# Altium footprint library PcbLib1.PcbLib: 226 footprints (part 4 of 15)
Each footprint in its own frame and in the unit in brackets; x right, y up, seen from the top. Pads: shape width x height; smd on the part's side, far side on the other; paste and mask are expansions set on the pad; w line width, h text height; cw(c..) or ccw(c..) is an arc to the next point about the centre after c.
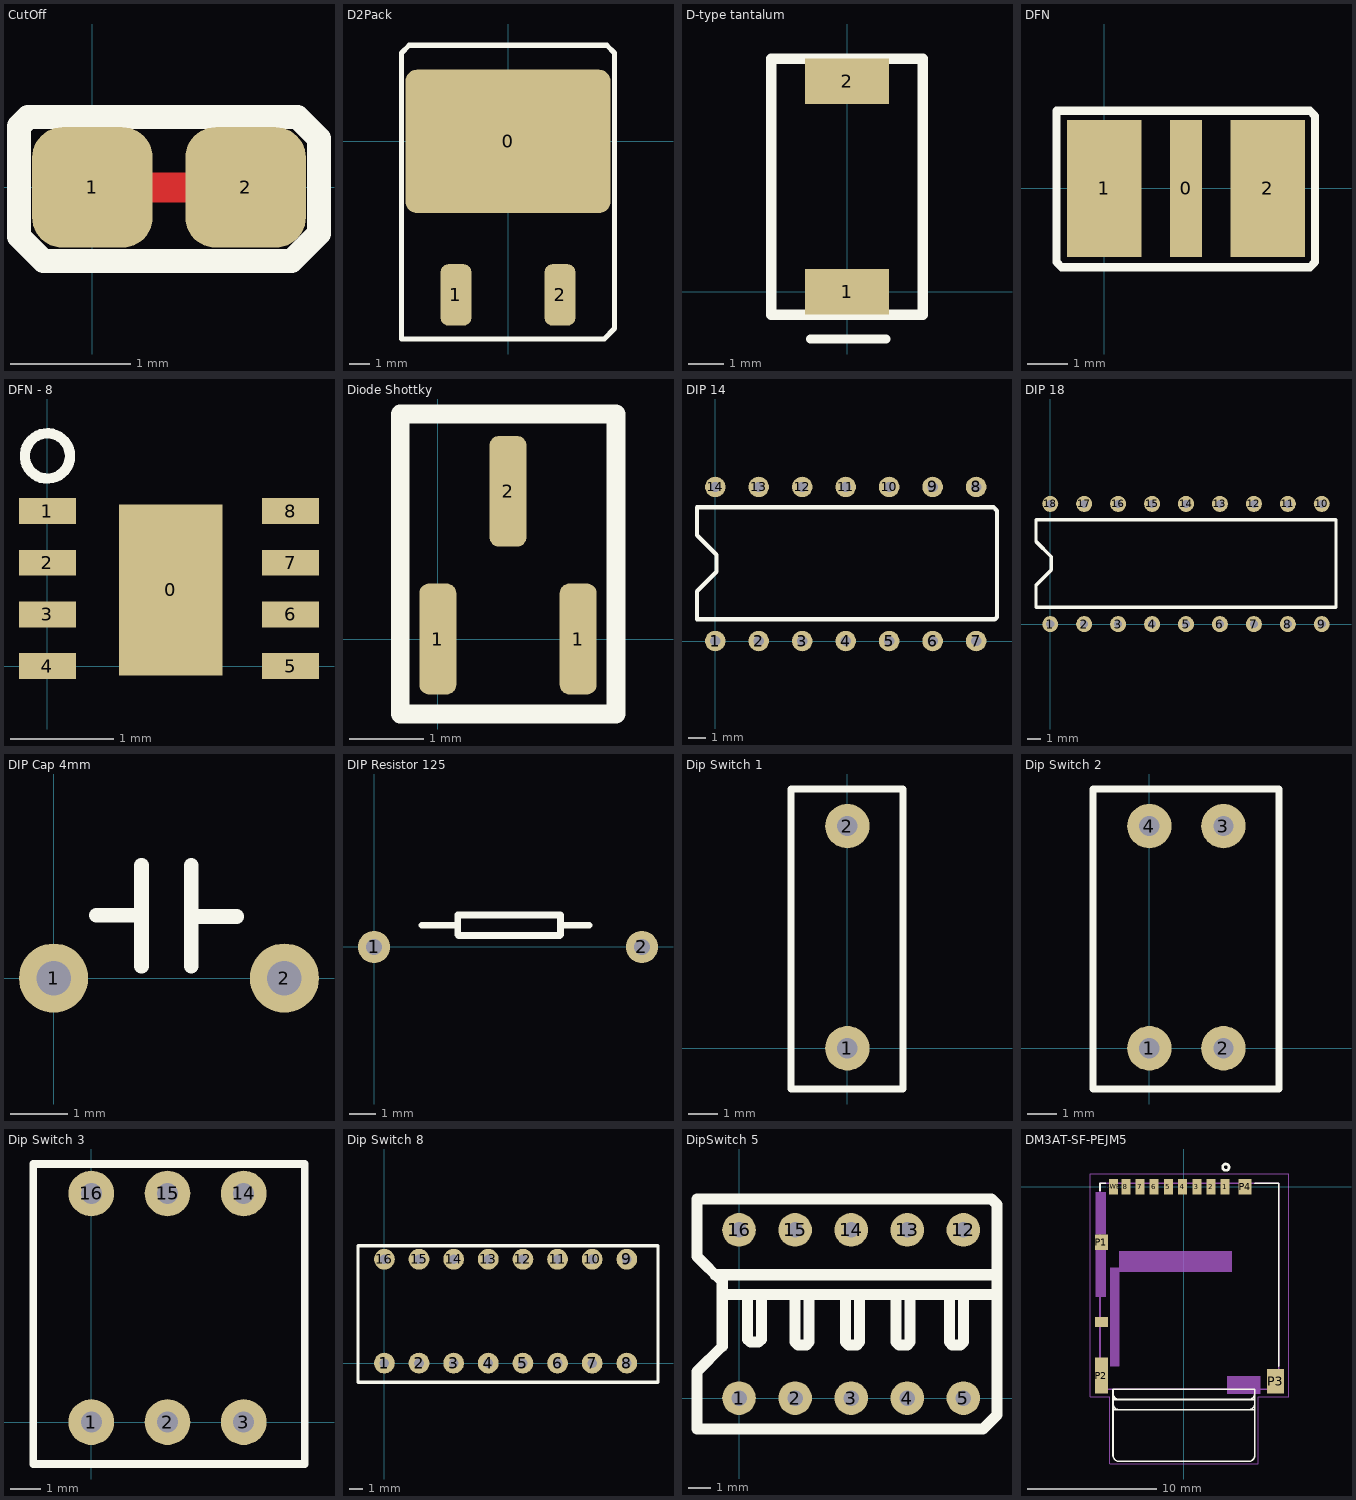
[diagram p3: the footprints below, top view; thin cyan lines are the x and y axes]

## CutOff [mm]
pads (2):
  rrect50% 1x1 smd paste+0 mask+0: 1(0,0) 2(1.27,0)
Top Layer:
  lines w0.25: 0,0 1.27,0
Top Overlay:
  lines w0.2: -0.61,-0.406 -0.61,0.508 -0.533,0.584 1.702,0.584 1.88,0.406 1.88,-0.381 1.651,-0.61 -0.406,-0.61 -0.61,-0.406

## D2Pack [mm]
pads (3):
  rrect15% 10x7 smd: 0(0,0)
  rrect50% 1.5x3 smd: 1(-2.54,-7.5) 2(2.54,-7.5)
Top Overlay:
  lines w0.254: -5.207,-9.652 4.699,-9.652 5.207,-9.144 5.207,4.318 4.826,4.699 -4.826,4.699 -5.207,4.318 -5.207,-9.652

## D-type tantalum [mm]
height 3
pads (2):
  rect 2.4x1.3 smd: 1(0,0) 2(0,5.994)
Top Overlay:
  lines w0.254: -1.041,-1.346 1.118,-1.346
  lines w0.3: -2.15,-0.657 -2.15,6.636 2.15,6.636 2.15,-0.657 2.146,-0.66 -2.146,-0.66 -2.15,-0.657

## DFN [mm]
height 1
pads (3):
  rect 0.8x3.4 smd: 0(2.025,0)
  rect 1.85x3.4 smd: 1(0,0) 2(4.05,0)
Top Overlay:
  lines w0.2: -1.194,-1.829 -1.067,-1.956 5.105,-1.956 5.232,-1.829 5.232,1.803 5.105,1.93 -1.194,1.93 -1.194,-1.829

## DFN - 8 [mm]
height 1
pads (9):
  rect 1x1.65 smd mask+0.05: 0(1.194,0.737)
  rect 0.55x0.25 smd mask+0.05: 1(0,1.499) 2(0,1) 3(0,0.5) 4(0,0) 5(2.35,0) 6(2.35,0.5) 7(2.35,1) 8(2.35,1.499)
Top Overlay:
  circle w0.1: c0,2.032 r0.218

## Diode Shottky [mm]
pads (3):
  rrect50% 0.5x1.5 smd: 1(0,0) 1(1.9,0) 2(0.95,2)
Top Overlay:
  lines w0.254: -0.508,-1.016 2.413,-1.016 2.413,3.048 -0.508,3.048 -0.508,-1.016

## DIP 14 [mm]
pads (14):
  round 1.2 hole 0.6: 1(0,0) 2(2.54,0) 3(5.08,0) 4(7.62,0) 5(10.16,0) 6(12.7,0) 7(15.24,0) 8(15.24,9) 9(12.7,9) 10(10.16,9) 11(7.62,9) 12(5.08,9) 13(2.54,9) 14(0,9)
Top Overlay:
  lines w0.254: -1.067,1.27 16.332,1.27 16.459,1.397 16.459,7.62 16.434,7.645 16.256,7.823 -1.067,7.823 -1.067,6.185 0.076,5.042 0.076,4.051 -1.067,2.908 -1.067,1.27

## DIP 18 [mm]
height 2
pads (18):
  round 1.2 hole 0.6: 1(0,0) 2(2.54,0) 3(5.08,0) 4(7.62,0) 5(10.16,0) 6(12.7,0) 7(15.24,0) 8(17.78,0) 9(20.32,0) 10(20.32,9) 11(17.78,9) 12(15.24,9) 13(12.7,9) 14(10.16,9) 15(7.62,9) 16(5.08,9) 17(2.54,9) 18(0,9)
Top Overlay:
  lines w0.254: 21.361,1.27 -1.067,1.27 -1.067,2.908 0.076,4.051 0.076,5.042 -1.067,6.185 -1.067,7.823 21.387,7.823 21.387,1.295

## DIP Cap 4mm [mm]
pads (2):
  round 1.2 hole 0.6: 1(0,0) 2(4,0)
Top Overlay:
  lines w0.254: 0.737,1.092 1.499,1.092 ; 1.524,0.203 1.524,1.956 ; 2.388,0.203 2.388,1.956 ; 2.413,1.067 3.175,1.067

## DIP Resistor 125 [mm]
pads (2):
  round 1.2 hole 0.6: 1(0,0) 2(10,0)
Top Overlay:
  lines w0.254: 1.778,0.813 3.124,0.813 3.124,0.457 3.15,0.432 6.934,0.432 6.96,0.457 6.96,1.194 3.124,1.194 3.124,0.737 ; 6.96,0.813 8.026,0.813

## Dip Switch 1 [mil]
pads (2):
  round 60 hole 27.56: 1(0,0) 2(0,300)
Top Overlay:
  lines w10: -76.14,-55 -76.14,350 75,350 75,-55 -76.14,-55

## Dip Switch 2 [mil]
pads (4):
  round 60 hole 27.56: 1(0,0) 2(100,0) 3(100,300) 4(0,300)
Top Overlay:
  lines w10: -76.14,-55 175,-55 175,350 -76.14,350 -76.14,-55

## Dip Switch 3 [mil]
pads (6):
  round 60 hole 27.56: 1(0,0) 2(100,0) 3(200,0) 14(200,300) 15(100,300) 16(0,300)
Top Overlay:
  lines w10: -76.14,-55 -76.14,338.7 280,338.7 280,-55 -76.14,-55

## Dip Switch 8 [mil]
pads (16):
  round 60 hole 27.56: 1(0,0) 2(100,0) 3(200,0) 4(300,0) 5(400,0) 6(500,0) 7(600,0) 8(700,0) 9(700,300) 10(600,300) 11(500,300) 12(400,300) 13(300,300) 14(200,300) 15(100,300) 16(0,300)
Top Overlay:
  lines w10: -76.14,-55 -76.14,338.7 790,338.7 790,-55 -76.14,-55

## DipSwitch 5 [mil]
pads (10):
  round 60 hole 27.56: 1(0,0) 2(100,0) 3(200,0) 4(300,0) 5(400,0) 12(400,300) 13(300,300) 14(200,300) 15(100,300) 16(0,300)
Top Overlay:
  lines w19.68: -42.5,220 455,220 ; -30,185 455,185 ; 15,180 15,105 20,100 35,100 40,105 40,180 ; 100,185 100,100 105,95 120,95 125,100 125,185 ; 190,185 190,100 195,95 210,95 215,100 215,185 ; 280,185 280,100 285,95 300,95 305,100 305,185 ; 375,185 375,100 380,95 395,95 400,100 400,185 ; -75,-55 435,-55 460,-30 460,345 450,355 -75,355 -75,252.5 -30,207.5 -30,92.5 -75,47.5 -75,-55

## DM3AT-SF-PEJM5 [mm]
height 2
pads (14):
  rect 0.7x1.2 smd: 1(3.2,0) 2(2.1,0) 3(1,0) 4(-0.1,0) 5(-1.2,0) 6(-2.3,0) 7(-3.4,0) 8(-4.5,0) SWB(-5.45,0)
  rect 1x1.2 smd: P1(-6.4,-4.3) P4(4.75,0)
  rect 1x2.8 smd: P2(-6.4,-14.65)
  rect 1.3x1.9 smd: P3(7.1,-15.1)
  rect 1x0.8 smd: SWA(-6.4,-10.5)
Top Overlay:
  circle w0.2: c3.25,1.5 r0.25
  lines w0.127: -6.5,-0.3 -6.5,0.25 -6.05,0.25 ; 5.5,0.25 7.35,0.25 7.35,-13.9 ; -5.5,-17.3 -5,-17.3 ; -5.5,-17.3 -5.5,-16.8 ; -5.5,-17.3 -5.5,-20.8 ccw(c-5,-20.8) -5,-21.3 5,-21.3 ccw(c5,-20.8) 5.5,-20.8 5.5,-17.3 ; -5.5,-16.8 ccw(c-5,-16.8) -5,-17.3 ; -5.5,-16.8 -5.5,-16.5 ; -5.5,-16.5 -5,-16.5 ; -5.5,-16.5 -5.5,-16 ; -5.5,-16 ccw(c-5,-16) -5,-16.5 ; -5.5,-16 -5.5,-15.7 5.5,-15.7 5.5,-16 ; -5,-17.3 5,-17.3 ; -5,-16.5 5,-16.5 ; 5,-17.3 ccw(c5,-16.8) 5.5,-16.8 ; 5,-17.3 5.5,-17.3 ; 5,-16.5 ccw(c5,-16) 5.5,-16 ; 5,-16.5 5.5,-16.5 ; 5.5,-17.3 5.5,-16.8 ; 5.5,-16.8 5.5,-16.5 ; 5.5,-16.5 5.5,-16
Mechanical 1:
  region: -6.825,-0.45 -6.05,-0.45 -6.05,-3.714 -6.825,-3.714
  region: -6.817,-4.9 -6.05,-4.9 -6.05,-8.521 -6.817,-8.521
  region: -5.715,-6.3 -5,-6.3 -5,-13.937 -5.715,-13.937
  region: -5.008,-5 3.7,-5 3.7,-6.611 -5.008,-6.611
  region: 3.355,-14.7 5.9,-14.7 5.9,-16.072 3.355,-16.072
  lines w0.127: -6.5,-15.7 7.35,-15.7 7.35,0.25 -6.5,0.25 -6.5,-15.7
  text "PCB Edge" at -4.76,-15.783 h1.88
Mechanical 4:
  lines w0.05: -7.25,-16.3 -5.75,-16.3 -5.75,-21.5 5.75,-21.5 5.75,-16.3 8.125,-16.3 8.125,1 -7.25,1 -7.25,-16.3